# Altium footprint library Inductor - Power.PcbLib: 24 footprints (part 1 of 2)
Each footprint in its own frame and in the unit in brackets; x right, y up, seen from the top. Pads: shape width x height; smd on the part's side, far side on the other; paste and mask are expansions set on the pad; w line width, h text height; cw(c..) or ccw(c..) is an arc to the next point about the centre after c.
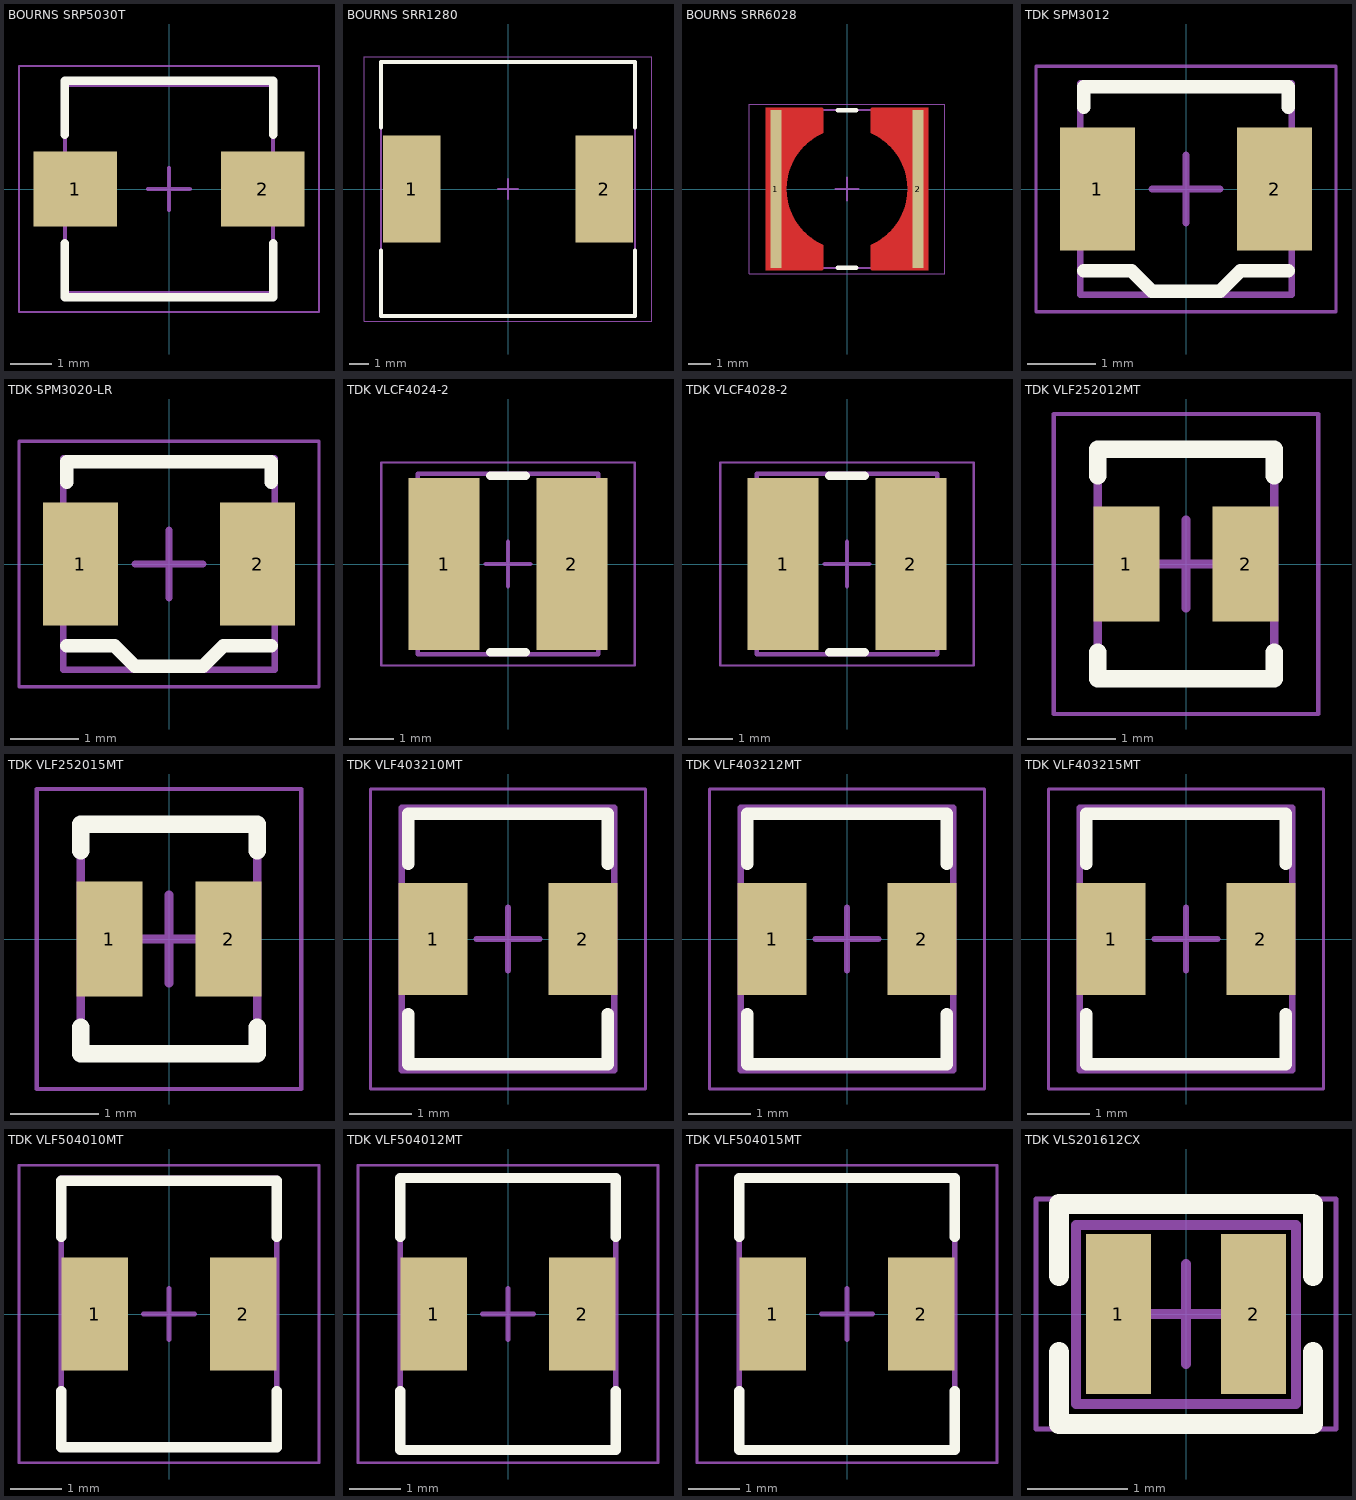
[diagram p0: the footprints below, top view; thin cyan lines are the x and y axes]

## BOURNS SRP5030T [mm] "Precision Wire Wound Inductor, 2-Leads, Body 5.70x5.20mm, IPC Medium Density"
height 3
pads (2):
  rect 2x1.8 smd: 1(-2.25,0) 2(2.25,0)
Top Overlay:
  lines w0.2: -2.5,-1.3 -2.5,-2.6 2.5,-2.6 2.5,-1.3 ; -2.5,1.3 -2.5,2.6 2.5,2.6 2.5,1.3
Mechanical 13:
  lines w0.1: -2.5,-2.5 -2.5,2.5 2.5,2.5 2.5,-2.5 -2.5,-2.5
Mechanical 15:
  lines w0.05: -3.6,-2.95 -3.6,2.95 3.6,2.95 3.6,-2.95 -3.6,-2.95
  lines w0.1: -0.5,0 0.5,0 ; 0,-0.5 0,0.5
3D body "Bourns SRP5030T.STEP": height 3, standoff 0, extent -2.85,-2.6 2.85,2.6

## BOURNS SRR1280 [mm] "Precision Wire Wound Inductor, 2-Leads, Body 12.50x12.50mm, IPC Medium Density"
height 8
pads (2):
  rect 2.9x5.4 smd: 1(-4.85,0) 2(4.85,0)
Top Overlay:
  lines w0.2: -6.4,-3.1 -6.4,-6.4 6.4,-6.4 6.4,-3.1 ; -6.4,3.1 -6.4,6.4 6.4,6.4 6.4,3.1
Mechanical 13:
  lines w0.1: -6.4,-6.4 -6.4,6.4 6.4,6.4 6.4,-6.4 -6.4,-6.4
Mechanical 15:
  lines w0.05: -7.225,-6.65 -7.225,6.65 7.225,6.65 7.225,-6.65 -7.225,-6.65
  lines w0.1: -0.5,0 0.5,0 ; 0,-0.5 0,0.5
3D body "SRR1280.STEP": height 7.9, standoff 0, extent -6.25,-6.25 6.25,6.25

## BOURNS SRR6028 [mm] "Precision Wire Wound Inductor, 2-Leads, Body 6.80x6.80mm, IPC Medium Density"
height 3
pads (2):
  rect 0.5x7 smd: 1(-3.15,0) 2(3.15,0)
Top Layer:
  region: -3.6,3.6 -1.1,3.6 -1.1,2.5 -1.4,2.4 -1.7,2.1 -1.9,2 -2.1,1.7 -2.3,1.4 -2.5,1 -2.6,0.7 -2.7,0.3 -2.7,0 -3.6,0
  region: -3.6,-3.6 -1.1,-3.6 -1.1,-2.5 -1.4,-2.4 -1.7,-2.1 -1.9,-2 -2.1,-1.7 -2.3,-1.4 -2.5,-1 -2.6,-0.7 -2.7,-0.3 -2.7,0 -3.6,0
  region: 3.6,-3.6 1.1,-3.6 1.1,-2.5 1.4,-2.4 1.7,-2.1 1.9,-2 2.1,-1.7 2.3,-1.4 2.5,-1 2.6,-0.7 2.7,-0.3 2.7,0 3.6,0
  region: 3.6,3.6 1.1,3.6 1.1,2.5 1.4,2.4 1.7,2.1 1.9,2 2.1,1.7 2.3,1.4 2.5,1 2.6,0.7 2.7,0.3 2.7,0 3.6,0
  lines w0.1: -1.1,-3.55 -1.1,-2.5 ; -1.1,-2.5 cw(c0,0) -2.731,0 cw(c0,0) -1.1,2.5 ; -1.1,2.5 -1.1,3.55 ; 1.1,-3.55 1.1,-2.5 ; 1.1,-2.5 ccw(c0,0) 2.731,0 ccw(c0,0) 1.1,2.5 ; 1.1,2.5 1.1,3.55
Top Overlay:
  lines w0.2: -0.4,-3.5 0.4,-3.5 ; -0.4,3.5 0.4,3.5
Mechanical 13:
  lines w0.1: -3.5,-3.5 -3.5,3.5 3.5,3.5 3.5,-3.5 -3.5,-3.5
Mechanical 15:
  lines w0.05: -4.325,-3.75 -4.325,3.75 4.325,3.75 4.325,-3.75 -4.325,-3.75
  lines w0.1: -0.5,0 0.5,0 ; 0,-0.5 0,0.5
3D body "Bourns SRR6028.STEP": height 2.8, standoff 0, extent -3.4,-3.4 3.4,3.4

## TDK SPM3012 [mm] "Inductor, 2-Leads, Body 3.00x3.00mm, IPC Medium Density"
height 1.2
pads (2):
  rect 1.1x1.8 smd: 1(-1.3,0) 2(1.3,0)
Top Overlay:
  lines w0.2: -1.5,-1.2 -0.8,-1.2 -0.5,-1.5 0,-1.5 0.5,-1.5 0.8,-1.2 1.5,-1.2 ; -1.5,1.2 -1.5,1.5 1.5,1.5 1.5,1.2
Mechanical 13:
  lines w0.1: -1.55,-1.55 -1.55,1.55 1.55,1.55 1.55,-1.55 -1.55,-1.55
Mechanical 15:
  lines w0.05: -2.2,-1.8 -2.2,1.8 2.2,1.8 2.2,-1.8 -2.2,-1.8
  lines w0.1: -0.5,0 0.5,0 ; 0,-0.5 0,0.5
3D body "SPM3012.STEP": height 1.2, standoff 0, extent -1.6,-1.5 1.6,1.5

## TDK SPM3020-LR [mm] "Inductor, 2-Leads, Body 3.00x3.00mm, IPC Medium Density"
height 2
pads (2):
  rect 1.1x1.8 smd: 1(-1.3,0) 2(1.3,0)
Top Overlay:
  lines w0.2: -1.5,-1.2 -0.8,-1.2 -0.5,-1.5 0,-1.5 0.5,-1.5 0.8,-1.2 1.5,-1.2 ; -1.5,1.2 -1.5,1.5 1.5,1.5 1.5,1.2
Mechanical 13:
  lines w0.1: -1.55,-1.55 1.55,-1.55 1.55,1.55 -1.55,1.55 -1.55,-1.55
Mechanical 15:
  lines w0.05: -2.2,-1.8 2.2,-1.8 2.2,1.8 -2.2,1.8 -2.2,-1.8
  lines w0.1: -0.5,0 0.5,0 ; 0,-0.5 0,0.5
3D body "SPM3020.STEP": height 2, standoff 0, extent -1.6,-1.5 1.6,1.5

## TDK VLCF4024-2 [mm] "Precision Wire Wound Inductor, 2-Leads, Body 4.00x4.00mm, IPC Medium Density"
height 2.4
pads (2):
  rect 1.6x3.9 smd: 1(-1.45,0) 2(1.45,0)
Top Overlay:
  lines w0.2: -0.4,-2 0.4,-2 ; -0.4,2 0.4,2
Mechanical 13:
  lines w0.1: -2.05,-2.05 2.05,-2.05 2.05,2.05 -2.05,2.05 -2.05,-2.05
Mechanical 15:
  lines w0.05: -2.875,-2.3 2.875,-2.3 2.875,2.3 -2.875,2.3 -2.875,-2.3
  lines w0.1: -0.5,0 0.5,0 ; 0,-0.5 0,0.5
3D body "TDK VLCF4024.STEP": height 2.4, standoff 0, extent -2.05,-2 2.05,2

## TDK VLCF4028-2 [mm] "Precision Wire Wound Inductor, 2-Leads, Body 4.00x4.00mm, IPC Medium Density"
height 2.8
pads (2):
  rect 1.6x3.9 smd: 1(-1.45,0) 2(1.45,0)
Top Overlay:
  lines w0.2: -0.4,-2 0.4,-2 ; -0.4,2 0.4,2
Mechanical 13:
  lines w0.1: -2.05,-2.05 -2.05,2.05 2.05,2.05 2.05,-2.05 -2.05,-2.05
Mechanical 15:
  lines w0.05: -2.875,-2.3 -2.875,2.3 2.875,2.3 2.875,-2.3 -2.875,-2.3
  lines w0.1: -0.5,0 0.5,0 ; 0,-0.5 0,0.5
3D body "TDK VLCF4028.STEP": height 2.81, standoff 0, extent -2.05,-2 2.05,2

## TDK VLF252012MT [mm] "Inductor, 2-Leads, Body 2.00x2.50mm, IPC Medium Density"
height 1.2
pads (2):
  rect 0.75x1.3 smd: 1(-0.675,0) 2(0.675,0)
Top Overlay:
  lines w0.2: -1,-1 -1,-1.3 1,-1.3 1,-1 ; -1,1 -1,1.3 1,1.3 1,1
Mechanical 13:
  lines w0.1: -1,-1.3 -1,1.3 1,1.3 1,-1.3 -1,-1.3
Mechanical 15:
  lines w0.05: -1.5,-1.7 -1.5,1.7 1.5,1.7 1.5,-1.7 -1.5,-1.7
  lines w0.1: -0.5,0 0.5,0 ; 0,-0.5 0,0.5
3D body "VLF252012MT.STEP": height 1.2, standoff 0, extent -1,-1.25 1,1.25

## TDK VLF252015MT [mm] "Inductor, 2-Leads, Body 2.00x2.50mm, IPC Medium Density"
height 1.5
pads (2):
  rect 0.75x1.3 smd: 1(-0.675,0) 2(0.675,0)
Top Overlay:
  lines w0.2: -1,-1 -1,-1.3 1,-1.3 1,-1 ; -1,1 -1,1.3 1,1.3 1,1
Mechanical 13:
  lines w0.1: -1,-1.3 -1,1.3 1,1.3 1,-1.3 -1,-1.3
Mechanical 15:
  lines w0.05: -1.5,-1.7 -1.5,1.7 1.5,1.7 1.5,-1.7 -1.5,-1.7
  lines w0.1: -0.5,0 0.5,0 ; 0,-0.5 0,0.5
3D body "VLF252015MT.STEP": height 1.5, standoff 0, extent -1,-1.25 1,1.25

## TDK VLF403210MT [mm] "Precision Wire Wound Inductor, 2-Leads, Body 3.20x4.00mm, IPC Medium Density"
height 1
pads (2):
  rect 1.1x1.8 smd: 1(-1.2,0) 2(1.2,0)
Top Overlay:
  lines w0.2: -1.6,-1.2 -1.6,-2 1.6,-2 1.6,-1.2 ; -1.6,1.2 -1.6,2 1.6,2 1.6,1.2
Mechanical 13:
  lines w0.1: -1.7,-2.1 1.7,-2.1 1.7,2.1 -1.7,2.1 -1.7,-2.1
Mechanical 15:
  lines w0.05: -2.2,-2.4 2.2,-2.4 2.2,2.4 -2.2,2.4 -2.2,-2.4
  lines w0.1: -0.5,0 0.5,0 ; 0,-0.5 0,0.5
3D body "VLF403210MT.STEP": height 1, standoff 0, extent -1.6,-2 1.6,2

## TDK VLF403212MT [mm] "Precision Wire Wound Inductor, 2-Leads, Body 3.20x4.00mm, IPC Medium Density"
height 1.2
pads (2):
  rect 1.1x1.8 smd: 1(-1.2,0) 2(1.2,0)
Top Overlay:
  lines w0.2: -1.6,-1.2 -1.6,-2 1.6,-2 1.6,-1.2 ; -1.6,1.2 -1.6,2 1.6,2 1.6,1.2
Mechanical 13:
  lines w0.1: -1.7,-2.1 1.7,-2.1 1.7,2.1 -1.7,2.1 -1.7,-2.1
Mechanical 15:
  lines w0.05: -2.2,-2.4 2.2,-2.4 2.2,2.4 -2.2,2.4 -2.2,-2.4
  lines w0.1: -0.5,0 0.5,0 ; 0,-0.5 0,0.5
3D body "VLF403212MT.STEP": height 1.2, standoff 0, extent -1.6,-2 1.6,2

## TDK VLF403215MT [mm] "Precision Wire Wound Inductor, 2-Leads, Body 3.20x4.00mm, IPC Medium Density"
height 1.2
pads (2):
  rect 1.1x1.8 smd: 1(-1.2,0) 2(1.2,0)
Top Overlay:
  lines w0.2: -1.6,-1.2 -1.6,-2 1.6,-2 1.6,-1.2 ; -1.6,1.2 -1.6,2 1.6,2 1.6,1.2
Mechanical 13:
  lines w0.1: -1.7,-2.1 1.7,-2.1 1.7,2.1 -1.7,2.1 -1.7,-2.1
Mechanical 15:
  lines w0.05: -2.2,-2.4 2.2,-2.4 2.2,2.4 -2.2,2.4 -2.2,-2.4
  lines w0.1: -0.5,0 0.5,0 ; 0,-0.5 0,0.5
3D body "VLF403215MT.STEP": height 1.5, standoff 0, extent -1.6,-2 1.6,2

## TDK VLF504010MT [mm] "Wire Wound Inductor, 2-Leads, Body 4.00x5.00mm, IPC Medium Density"
height 1
pads (2):
  rect 1.3x2.2 smd: 1(-1.45,0) 2(1.45,0)
Top Overlay:
  lines w0.2: -2.1,-1.5 -2.1,-2.6 2.1,-2.6 2.1,-1.5 ; -2.1,1.5 -2.1,2.6 2.1,2.6 2.1,1.5
Mechanical 13:
  lines w0.1: -2.1,-2.6 -2.1,2.65 2.1,2.65 2.1,-2.6 -2.1,-2.6
Mechanical 15:
  lines w0.05: -2.925,-2.9 -2.925,2.9 2.925,2.9 2.925,-2.9 -2.925,-2.9
  lines w0.1: -0.5,0 0.5,0 ; 0,-0.5 0,0.5
3D body "VLF504010MT.STEP": height 1, standoff 0, extent -2,-2.5 2,2.5

## TDK VLF504012MT [mm] "Wire Wound Inductor, 2-Leads, Body 4.00x5.00mm, IPC Medium Density"
height 1.2
pads (2):
  rect 1.3x2.2 smd: 1(-1.45,0) 2(1.45,0)
Top Overlay:
  lines w0.2: -2.1,-1.5 -2.1,-2.65 2.1,-2.65 2.1,-1.5 ; -2.1,1.5 -2.1,2.65 2.1,2.65 2.1,1.5
Mechanical 13:
  lines w0.1: -2.1,-2.65 2.1,-2.65 2.1,2.65 -2.1,2.65 -2.1,-2.65
Mechanical 15:
  lines w0.05: -2.925,-2.9 2.925,-2.9 2.925,2.9 -2.925,2.9 -2.925,-2.9
  lines w0.1: -0.5,0 0.5,0 ; 0,-0.5 0,0.5
3D body "VLF504012MT.STEP": height 1.2, standoff 0, extent -2,-2.5 2,2.5

## TDK VLF504015MT [mm] "Wire Wound Inductor, 2-Leads, Body 4.00x5.00mm, IPC Medium Density"
height 1.5
pads (2):
  rect 1.3x2.2 smd: 1(-1.45,0) 2(1.45,0)
Top Overlay:
  lines w0.2: -2.1,-1.5 -2.1,-2.65 2.1,-2.65 2.1,-1.5 ; -2.1,1.5 -2.1,2.65 2.1,2.65 2.1,1.5
Mechanical 13:
  lines w0.1: -2.1,-2.65 2.1,-2.65 2.1,2.65 -2.1,2.65 -2.1,-2.65
Mechanical 15:
  lines w0.05: -2.925,-2.9 2.925,-2.9 2.925,2.9 -2.925,2.9 -2.925,-2.9
  lines w0.1: -0.5,0 0.5,0 ; 0,-0.5 0,0.5
3D body "VLF504015MT.STEP": height 1.5, standoff 0, extent -2,-2.5 2,2.5

## TDK VLS201612CX [mm] "Inductor, 2-Leads, Body 2.00x1.60mm, IPC Medium Density"
height 1.2
pads (2):
  rect 0.65x1.6 smd: 1(-0.675,0) 2(0.675,0)
Top Overlay:
  lines w0.2: -1.27,-0.381 -1.27,-1.1 1.27,-1.1 1.27,-0.381 ; -1.27,0.381 -1.27,1.1 1.27,1.1 1.27,0.381
Mechanical 13:
  lines w0.1: -1.1,-0.9 -1.1,0.889 1.1,0.889 1.1,-0.9 -1.1,-0.9
Mechanical 15:
  lines w0.05: -1.5,-1.15 -1.5,1.15 1.5,1.15 1.5,-1.15 -1.5,-1.15
  lines w0.1: -0.5,0 0.5,0 ; 0,-0.5 0,0.5
3D body "VLS201612CX.STEP": height 1.2, standoff 0, extent -1,-0.8 1,0.8